# Altium footprint library IHLP5050FDER1R8M01.PcbLib: 3 footprints
Each footprint in its own frame and in the unit in brackets; x right, y up, seen from the top. Pads: shape width x height; smd on the part's side, far side on the other; paste and mask are expansions set on the pad; w line width, h text height; cw(c..) or ccw(c..) is an arc to the next point about the centre after c.
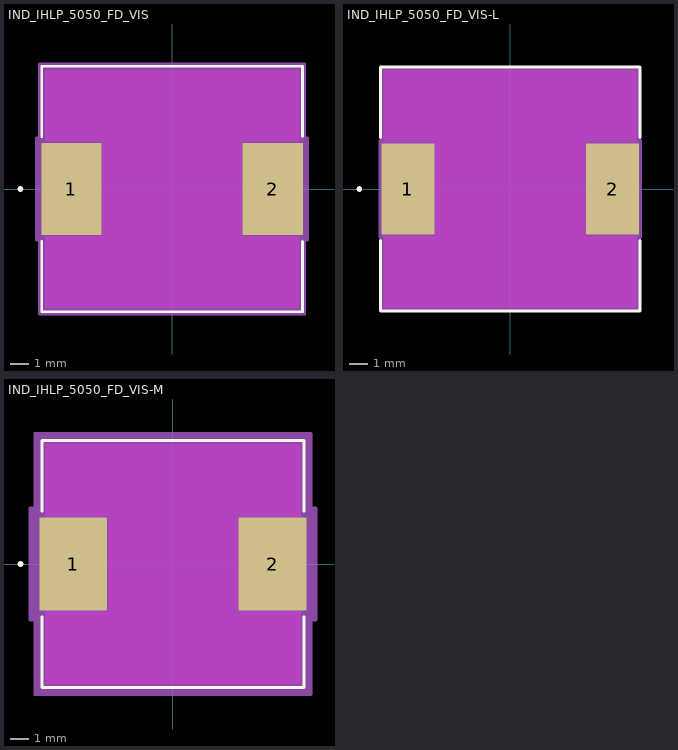
[diagram p0: the footprints below, top view; thin cyan lines are the x and y axes]

## IND_IHLP_5050_FD_VIS [mil]
pads (2):
  rect 127x195 smd paste+0 mask+0: 1(-212.5,0) 2(212.5,0)
Top Layer keep-out:
  region: -147,-99.5 -147,99.5 147,99.5 147,-99.5
  region: -268,99.5 -268,252 268,252 268,99.5
  region: -268,-252 -268,-99.5 268,-99.5 268,-252
Top Overlay:
  circle w6: c-320,0 r3
  lines w6: -275,-110.6 -275,-259 275,-259 275,-110.6 ; -275,110.6 -275,259 275,259 275,110.6
Keep-Out Layer:
  region: -147,-99.5 -147,99.5 147,99.5 147,-99.5
Mechanical 13:
  circle w0: c-250,0 r3
  lines w1: -270,-254 270,-254 270,254 -270,254 -270,-254
Mechanical 15:
  region: -280,-107.5 -286,-107.5 -286,107.5 -280,107.5 -280,264 280,264 280,107.5 286,107.5 286,-107.5 280,-107.5 280,-264 -280,-264
  lines w6: -286,-107.5 -286,107.5 -280,107.5 -280,264 280,264 280,107.5 286,107.5 286,-107.5 280,-107.5 280,-264 -280,-264 -280,-107.5 -286,-107.5
3D body "IND_IHLP_5050_FD_VIS.step": height 257.99, standoff 0, extent -270,-254.02 270,254.02

## IND_IHLP_5050_FD_VIS-L [mil]
pads (2):
  rect 112x193 smd paste+0 mask+0: 1(-217,0) 2(217,0)
Top Layer keep-out:
  region: -159,-99.5 -159,99.5 159,99.5 159,-99.5
  region: -268,99.5 -268,252 268,252 268,99.5
  region: -268,-252 -268,-99.5 268,-99.5 268,-252
Top Overlay:
  circle w6: c-320,0 r3
  lines w6: -275,-109.45 -275,-259 275,-259 275,-109.45 ; -275,109.45 -275,259 275,259 275,109.45
Keep-Out Layer:
  region: -159,-99.5 -159,99.5 159,99.5 159,-99.5
Mechanical 13:
  circle w0: c-250,0 r3
  lines w1: -270,-254 270,-254 270,254 -270,254 -270,-254
Mechanical 15:
  region: -274,-101.5 -277,-101.5 -277,101.5 -274,101.5 -274,258 274,258 274,101.5 277,101.5 277,-101.5 274,-101.5 274,-258 -274,-258
  lines w6: -277,-101.5 -277,101.5 -274,101.5 -274,258 274,258 274,101.5 277,101.5 277,-101.5 274,-101.5 274,-258 -274,-258 -274,-101.5 -277,-101.5
3D body "IND_IHLP_5050_FD_VIS.step": height 257.99, standoff 0, extent -270,-254.02 270,254.02

## IND_IHLP_5050_FD_VIS-M [mil]
pads (2):
  rect 142x195 smd paste+0 mask+0: 1(-209,0) 2(209,0)
Top Layer keep-out:
  region: -136,-99.5 -136,99.5 136,99.5 136,-99.5
  region: -268,99.5 -268,252 268,252 268,99.5
  region: -268,-252 -268,-99.5 268,-99.5 268,-252
Top Overlay:
  circle w6: c-320,0 r3
  lines w6: -275,-110.6 -275,-259 275,-259 275,-110.6 ; -275,110.6 -275,259 275,259 275,110.6
Keep-Out Layer:
  region: -136,-99.5 -136,99.5 136,99.5 136,-99.5
Mechanical 13:
  circle w0: c-250,0 r3
  lines w1: -270,-254 270,-254 270,254 -270,254 -270,-254
Mechanical 15:
  region: -290,-117.5 -300,-117.5 -300,117.5 -290,117.5 -290,274 290,274 290,117.5 300,117.5 300,-117.5 290,-117.5 290,-274 -290,-274
  lines w6: -300,-117.5 -300,117.5 -290,117.5 -290,274 290,274 290,117.5 300,117.5 300,-117.5 290,-117.5 290,-274 -290,-274 -290,-117.5 -300,-117.5
3D body "IND_IHLP_5050_FD_VIS.step": height 257.99, standoff 0, extent -270,-254.02 270,254.02